# Altium footprint library BAT 80 LF105-12.PcbLib: 8 footprints
Each footprint in its own frame and in the unit in brackets; x right, y up, seen from the top. Pads: shape width x height; smd on the part's side, far side on the other; paste and mask are expansions set on the pad; w line width, h text height; cw(c..) or ccw(c..) is an arc to the next point about the centre after c.
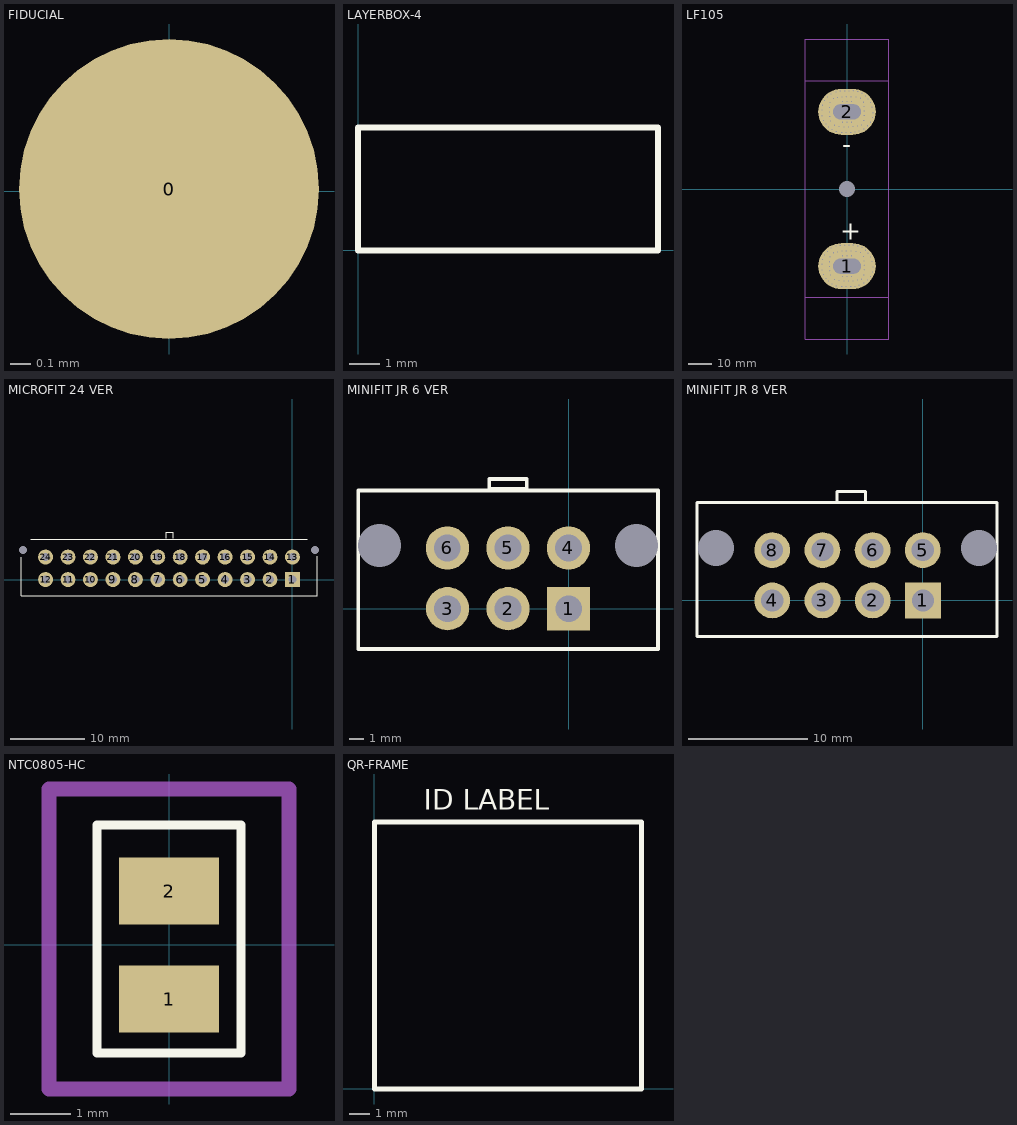
[diagram p0: the footprints below, top view; thin cyan lines are the x and y axes]

## FIDUCIAL [mm] "FIDUCIAL MARK"
pads (1):
  round 1.5 smd mask+0.75: 0(0,0.012)

## LAYERBOX-4 [mm] "LAYER MARKER BOX 4 LAYER"
Top Layer:
  text "1" at 1.1,0.8 h2.54
Mid-Layer 1:
  text "2" at 2.7,0.8 h2.54
Mid-Layer 2:
  text "3" at 5.1,0.8 h2.54
Bottom Layer:
  text "4" at 7.6,0.8 h2.54
Top Overlay:
  lines w0.2: 0,0 10,0 10,4.1 0,4.1 0,0

## LF105 [mm]
height 2
pads (3):
  round 0 hole 7 unplated: 0(0,0)
  oval 25x20 hole 6.6 slot 12 at 0 deg: 1(0,-33.5) 2(0,33.5)
via 0,-38 diameter 1 hole 0.5
via -2,-38 diameter 1 hole 0.5
via 2,-38 diameter 1 hole 0.5
via 0,-29 diameter 1 hole 0.5
via -2,-29 diameter 1 hole 0.5
via 2,-29 diameter 1 hole 0.5
via 7.1,-29.3 diameter 1 hole 0.5
via 7.5,-33.1 diameter 1 hole 0.5
via 7.5,-35.1 diameter 1 hole 0.5
via 7.3,-37.3 diameter 1 hole 0.5
via 7.4,-31.2 diameter 1 hole 0.5
via -7.2,-37.4 diameter 1 hole 0.5
via -7.6,-33.6 diameter 1 hole 0.5
via -7.6,-31.6 diameter 1 hole 0.5
via -7.4,-29.4 diameter 1 hole 0.5
via -7.5,-35.5 diameter 1 hole 0.5
via -4.1,-27.3 diameter 1 hole 0.5
via -5.9,-27.7 diameter 1 hole 0.5
via -0.3,-26.9 diameter 1 hole 0.5
via 1.7,-26.9 diameter 1 hole 0.5
via 5.8,-27.6 diameter 1 hole 0.5
via 3.9,-27.1 diameter 1 hole 0.5
via -2.2,-27 diameter 1 hole 0.5
via 4.5,-39.6 diameter 1 hole 0.5
via 6.3,-39.2 diameter 1 hole 0.5
via 0.7,-40 diameter 1 hole 0.5
via -1.3,-40 diameter 1 hole 0.5
via -5.4,-39.3 diameter 1 hole 0.5
via -3.5,-39.8 diameter 1 hole 0.5
via 2.6,-39.9 diameter 1 hole 0.5
via -10.6,-30.6 diameter 1 hole 0.5
via -10.9,-32.7 diameter 1 hole 0.5
via -10.9,-35.2 diameter 1 hole 0.5
via -10.2,-37.2 diameter 1 hole 0.5
via -9.1,-38.8 diameter 1 hole 0.5
via -9.8,-28.6 diameter 1 hole 0.5
via -2.9,-24.5 diameter 1 hole 0.5
via -6.9,-25.7 diameter 1 hole 0.5
via 6.5,-25.4 diameter 1 hole 0.5
via -4.8,-24.8 diameter 1 hole 0.5
via -8.5,-27.1 diameter 1 hole 0.5
via 11,-36 diameter 1 hole 0.5
via 11.3,-33.9 diameter 1 hole 0.5
via 10.9,-31.5 diameter 1 hole 0.5
via 10.2,-29.5 diameter 1 hole 0.5
via 9.1,-27.9 diameter 1 hole 0.5
via 10.2,-38 diameter 1 hole 0.5
via 3.411,-42.302 diameter 1 hole 0.5
via 7.3,-40.9 diameter 1 hole 0.5
via 5.2,-41.8 diameter 1 hole 0.5
via 8.9,-39.5 diameter 1 hole 0.5
via -1,-24.4 diameter 1 hole 0.5
via 0.8,-24.4 diameter 1 hole 0.5
via 2.7,-24.3 diameter 1 hole 0.5
via 4.7,-24.7 diameter 1 hole 0.5
via 8.1,-26.6 diameter 1 hole 0.5
via -0.4,-42.4 diameter 1 hole 0.5
via -2.3,-42.4 diameter 1 hole 0.5
via -8.1,-40 diameter 1 hole 0.5
via -6.5,-41.2 diameter 1 hole 0.5
via -4.7,-42.1 diameter 1 hole 0.5
via 1.6,-42.4 diameter 1 hole 0.5
via 0,29 diameter 1 hole 0.5
via -2,29 diameter 1 hole 0.5
via 2,29 diameter 1 hole 0.5
via 0,38 diameter 1 hole 0.5
via -2,38 diameter 1 hole 0.5
via 2,38 diameter 1 hole 0.5
via 7.1,37.7 diameter 1 hole 0.5
via 7.5,33.9 diameter 1 hole 0.5
via 7.5,31.9 diameter 1 hole 0.5
via 7.3,29.7 diameter 1 hole 0.5
via 7.4,35.8 diameter 1 hole 0.5
via -7.2,29.6 diameter 1 hole 0.5
via -7.6,33.4 diameter 1 hole 0.5
via -7.6,35.4 diameter 1 hole 0.5
via -7.4,37.6 diameter 1 hole 0.5
via -7.5,31.5 diameter 1 hole 0.5
via -4.1,39.7 diameter 1 hole 0.5
via -5.9,39.3 diameter 1 hole 0.5
via -0.3,40.1 diameter 1 hole 0.5
via 1.7,40.1 diameter 1 hole 0.5
via 5.8,39.4 diameter 1 hole 0.5
via 3.9,39.9 diameter 1 hole 0.5
via -2.2,40 diameter 1 hole 0.5
via 4.5,27.4 diameter 1 hole 0.5
via 6.3,27.8 diameter 1 hole 0.5
via 0.7,27 diameter 1 hole 0.5
via -1.3,27 diameter 1 hole 0.5
via -5.4,27.7 diameter 1 hole 0.5
via -3.5,27.2 diameter 1 hole 0.5
via 2.6,27.1 diameter 1 hole 0.5
via -10.6,36.4 diameter 1 hole 0.5
via -10.9,34.3 diameter 1 hole 0.5
via -10.9,31.8 diameter 1 hole 0.5
via -10.2,29.8 diameter 1 hole 0.5
via -9.1,28.2 diameter 1 hole 0.5
via -9.8,38.4 diameter 1 hole 0.5
via -2.9,42.5 diameter 1 hole 0.5
via -6.9,41.3 diameter 1 hole 0.5
via 6.5,41.6 diameter 1 hole 0.5
via -4.8,42.2 diameter 1 hole 0.5
via -8.5,39.9 diameter 1 hole 0.5
via 11,31 diameter 1 hole 0.5
via 11.3,33.1 diameter 1 hole 0.5
via 10.9,35.5 diameter 1 hole 0.5
via 10.2,37.5 diameter 1 hole 0.5
via 9.1,39.1 diameter 1 hole 0.5
via 10.2,29 diameter 1 hole 0.5
via 3.411,24.698 diameter 1 hole 0.5
via 7.3,26.1 diameter 1 hole 0.5
via 5.2,25.2 diameter 1 hole 0.5
via 8.9,27.5 diameter 1 hole 0.5
via -1,42.6 diameter 1 hole 0.5
via 0.8,42.6 diameter 1 hole 0.5
via 2.7,42.7 diameter 1 hole 0.5
via 4.7,42.3 diameter 1 hole 0.5
via 8.1,40.4 diameter 1 hole 0.5
via -0.4,24.6 diameter 1 hole 0.5
via -2.3,24.6 diameter 1 hole 0.5
via -8.1,27 diameter 1 hole 0.5
via -6.5,25.8 diameter 1 hole 0.5
via -4.7,24.9 diameter 1 hole 0.5
via 1.6,24.6 diameter 1 hole 0.5
Top Overlay:
  text "-" at -2,15.5 h8
  text "+" at -3,-22 h8
Mechanical 2:
  lines w0.2: -18.1,-47 18.1,-47 ; -18.1,47 18.1,47 ; -18.1,-65.15 -18.1,65.15 18.1,65.15 18.1,-65.15 -18.1,-65.15

## MICROFIT 24 VER [mm]
pads (26):
  round 0 hole 1.1 unplated: 0(-36,3.94) 0(3,3.94)
  rect 2x2 hole 1.1: 1(0,0)
  round 2 hole 1.1: 2(-3,0) 3(-6,0) 4(-9,0) 5(-12,0) 6(-15,0) 7(-18,0) 8(-21,0) 9(-24,0) 10(-27,0) 11(-30,0) 12(-33,0) 13(0,3) 14(-3,3) 15(-6,3) 16(-9,3) 17(-12,3) 18(-15,3) 19(-18,3) 20(-21,3) 21(-24,3) 22(-27,3) 23(-30,3) 24(-33,3)
Top Overlay:
  lines w0.15: -36.25,3 -36.25,-2.2 -4.5,-2.2 3.33,-2.2 ; -35,5.35 -12,5.35 2,5.35 ; -16.9,5.55 -16.9,6.35 -15.9,6.35 -15.9,5.55 ; 3.3,-2.2 3.3,3.1
3D body "430452412.stp": height 10.15, standoff -2.94, extent -36.575,-2.44 3.575,6.33

## MINIFIT JR 6 VER [mm] "462070006"
pads (8):
  round 0 hole 3 unplated: 0(-13.11,4.391) 0(4.7,4.391)
  rect 3x3 hole 1.85: 1(0,0)
  round 3 hole 1.85: 2(-4.2,0) 3(-8.4,0) 4(-0.01,4.211) 5(-4.21,4.211) 6(-8.41,4.211)
Top Overlay:
  lines w0.254: -14.6,-2.8 6.2,-2.8 6.2,8.2 -14.6,8.2 -14.6,-2.8 ; -5.5,8.3 -2.9,8.3 -2.9,9 -5.5,9 -5.5,8.3
3D body "462070006.stp": height 13.8, standoff -3.46, extent -14.63,-2.8 6.23,8.2

## MINIFIT JR 8 VER [mm] "462070008"
pads (10):
  round 0 hole 3 unplated: 0(-17.31,4.391) 0(4.7,4.391)
  rect 3x3 hole 1.85: 1(0,0)
  round 3 hole 1.85: 2(-4.2,0) 3(-8.4,0) 4(-12.6,0) 5(-0.01,4.211) 6(-4.21,4.211) 7(-8.41,4.211) 8(-12.61,4.211)
Top Overlay:
  lines w0.254: -18.9,-3 -18.9,8.2 6.2,8.2 6.2,-3 -18.9,-3 ; -7.2,8.2 -7.2,9.1 -4.8,9.1 -4.8,8.2 -7.2,8.2
3D body "462070008.stp": height 13.8, standoff -3.46, extent -18.83,-2.8 6.23,8.2

## NTC0805-HC [mm] "HEAVY COPPER FOOTPRINT"
pads (2):
  rect 1.67x1.12 smd paste-0.1 mask-0.1: 1(0,-0.9) 2(0,0.9)
Top Overlay:
  lines w0.152: -1.2,-1.8 -1.2,2 1.2,2 1.2,-1.8 -1.2,-1.8
Mechanical 2:
  lines w0.254: -2,-2.4 -2,2.6 2,2.6 2,-2.4 -2,-2.4
3D body: height 1, standoff 0, extent -0.8,-1.05 0.8,1.05

## QR-FRAME [mm]
pads (1):
  round 0 on Top Overlay: 1(0,0)
Top Overlay:
  lines w0.254: 0,0 0,13 13,13 13,0 0,0
  text "ID LABEL" at 2.4,13.6 h1